# Altium integrated library Altera Cyclone II.IntLib: 234 symbols (part 7 of 38)
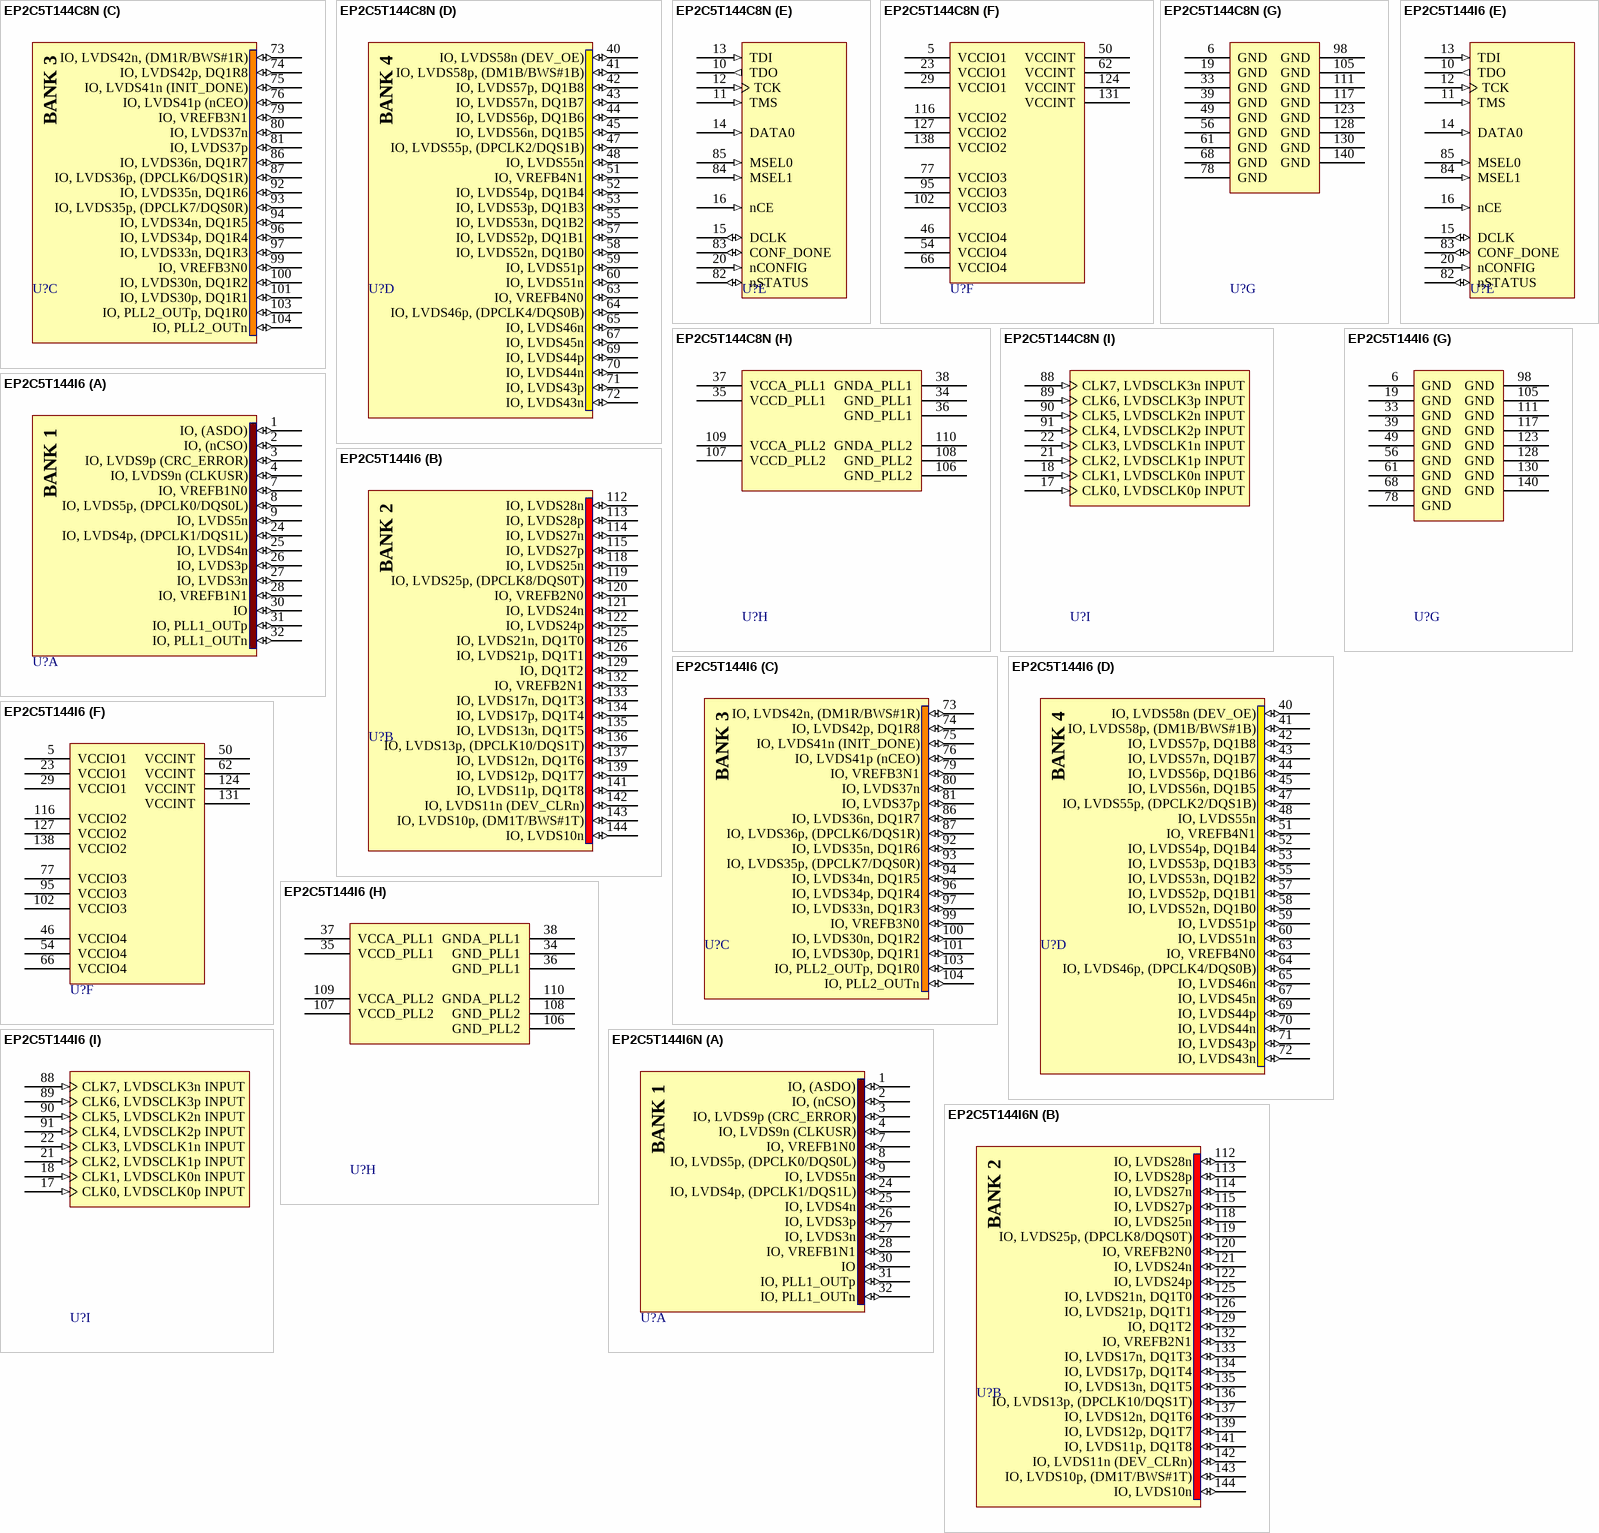
[diagram p502: symbols EP2C5T144C8N to EP2C5T144I6N]

## EP2C5T144C8N
designator U?
Cyclone II Family, 1.2V FPGA, 89 I/O Pins, 2 PLLs, 144-Pin TQFP, Speed Grade 8, Commercial Grade, Pb-Free; Published: 4-Mar-2005; LatestRevisionDate: 14-May-2007; LatestRevisionNote: DATA0 pin is now INPUT.; DatasheetVersion: ver3.3, Feb-2008; PackageVersion: ver15.4, Dec-2008; PackageReference: TQFP144; Publisher: Altium Limited; PackageDescription: 144-Pin Plastic Thin Quad Flat Pack (TQFP144) - Wire Bond; Supplier 1: Digi-Key; Supplier Part Number 1: 544-1665-ND; Supplier 2: Farnell; Supplier Part Number 2: 1662263; Supplier 3: Farnell; Supplier Part Number 3: 1453497; Code_JEDEC: MS-026-BFB; ComponentLink1Description: Manufacturer Link; ComponentLink1URL: http://www.altera.com/products/devices/cyclone2/cy2-index.jsp; ComponentLink2Description: Handbook; ComponentLink2URL: http://www.altera.com/literature/hb/cyc2/cyc2_cii5v1.pdf; ComponentLink3Description: Packaging Specification; ComponentLink3URL: http://www.altera.com/literature/ds/dspkg.pdf
footprint TQFP144_N (Thin QFP, 144-Leads, Body 20x20mm, Pitch 0.5mm, IPC Medium Density)
footprint TQFP144_L (Thin QFP, 144-Leads, Body 20x20mm, Pitch 0.5mm, IPC High Density)
footprint TQFP144_M (Thin QFP, 144-Leads, Body 20x20mm, Pitch 0.5mm, IPC Low Density)
3D model EP2C5-TQFP144 (144-Pin Plastic Thin Quad Flat Pack (TQFP144) - Wire Bond)
signal-integrity model EP2C5T_144 (Cyclone II)
part A pins: 1 IO, (ASDO) (io), 2 IO, (nCSO) (io), 3 IO, LVDS9p (CRC_ERROR) (io), 4 IO, LVDS9n (CLKUSR) (io), 7 IO, VREFB1N0 (io), 8 IO, LVDS5p, (DPCLK0/DQS0L) (io), 9 IO, LVDS5n (io), 24 IO, LVDS4p, (DPCLK1/DQS1L) (io), 25 IO, LVDS4n (io), 26 IO, LVDS3p (io), 27 IO, LVDS3n (io), 28 IO, VREFB1N1 (io), 30 IO (io), 31 IO, PLL1_OUTp (io), 32 IO, PLL1_OUTn (io)
part B pins: 112 IO, LVDS28n (io), 113 IO, LVDS28p (io), 114 IO, LVDS27n (io), 115 IO, LVDS27p (io), 118 IO, LVDS25n (io), 119 IO, LVDS25p, (DPCLK8/DQS0T) (io), 120 IO, VREFB2N0 (io), 121 IO, LVDS24n (io), 122 IO, LVDS24p (io), 125 IO, LVDS21n, DQ1T0 (io), 126 IO, LVDS21p, DQ1T1 (io), 129 IO, DQ1T2 (io), 132 IO, VREFB2N1 (io), 133 IO, LVDS17n, DQ1T3 (io), 134 IO, LVDS17p, DQ1T4 (io), 135 IO, LVDS13n, DQ1T5 (io), 136 IO, LVDS13p, (DPCLK10/DQS1T) (io), 137 IO, LVDS12n, DQ1T6 (io), 139 IO, LVDS12p, DQ1T7 (io), 141 IO, LVDS11p, DQ1T8 (io), 142 IO, LVDS11n (DEV_CLRn) (io), 143 IO, LVDS10p, (DM1T/BWS#1T) (io), 144 IO, LVDS10n (io)
part C pins: 73 IO, LVDS42n, (DM1R/BWS#1R) (io), 74 IO, LVDS42p, DQ1R8 (io), 75 IO, LVDS41n (INIT_DONE) (io), 76 IO, LVDS41p (nCEO) (io), 79 IO, VREFB3N1 (io), 80 IO, LVDS37n (io), 81 IO, LVDS37p (io), 86 IO, LVDS36n, DQ1R7 (io), 87 IO, LVDS36p, (DPCLK6/DQS1R) (io), 92 IO, LVDS35n, DQ1R6 (io), 93 IO, LVDS35p, (DPCLK7/DQS0R) (io), 94 IO, LVDS34n, DQ1R5 (io), 96 IO, LVDS34p, DQ1R4 (io), 97 IO, LVDS33n, DQ1R3 (io), 99 IO, VREFB3N0 (io), 100 IO, LVDS30n, DQ1R2 (io), 101 IO, LVDS30p, DQ1R1 (io), 103 IO, PLL2_OUTp, DQ1R0 (io), 104 IO, PLL2_OUTn (io)
part D pins: 40 IO, LVDS58n (DEV_OE) (io), 41 IO, LVDS58p, (DM1B/BWS#1B) (io), 42 IO, LVDS57p, DQ1B8 (io), 43 IO, LVDS57n, DQ1B7 (io), 44 IO, LVDS56p, DQ1B6 (io), 45 IO, LVDS56n, DQ1B5 (io), 47 IO, LVDS55p, (DPCLK2/DQS1B) (io), 48 IO, LVDS55n (io), 51 IO, VREFB4N1 (io), 52 IO, LVDS54p, DQ1B4 (io), 53 IO, LVDS53p, DQ1B3 (io), 55 IO, LVDS53n, DQ1B2 (io), 57 IO, LVDS52p, DQ1B1 (io), 58 IO, LVDS52n, DQ1B0 (io), 59 IO, LVDS51p (io), 60 IO, LVDS51n (io), 63 IO, VREFB4N0 (io), 64 IO, LVDS46p, (DPCLK4/DQS0B) (io), 65 IO, LVDS46n (io), 67 IO, LVDS45n (io), 69 IO, LVDS44p (io), 70 IO, LVDS44n (io), 71 IO, LVDS43p (io), 72 IO, LVDS43n (io)
part E pins: 10 TDO (out), 11 TMS (in), 12 TCK (in), 13 TDI (in), 14 DATA0 (in), 15 DCLK (io), 16 nCE (in), 20 nCONFIG (in), 82 nSTATUS (io), 83 CONF_DONE (io), 84 MSEL1 (in), 85 MSEL0 (in)
part F pins: 5 VCCIO1 (power), 23 VCCIO1 (power), 29 VCCIO1 (power), 46 VCCIO4 (power), 50 VCCINT (power), 54 VCCIO4 (power), 62 VCCINT (power), 66 VCCIO4 (power), 77 VCCIO3 (power), 95 VCCIO3 (power), 102 VCCIO3 (power), 116 VCCIO2 (power), 124 VCCINT (power), 127 VCCIO2 (power), 131 VCCINT (power), 138 VCCIO2 (power)
part G pins: 6 GND (power), 19 GND (power), 33 GND (power), 39 GND (power), 49 GND (power), 56 GND (power), 61 GND (power), 68 GND (power), 78 GND (power), 98 GND (power), 105 GND (power), 111 GND (power), 117 GND (power), 123 GND (power), 128 GND (power), 130 GND (power), 140 GND (power)
part H pins: 34 GND_PLL1 (power), 35 VCCD_PLL1 (power), 36 GND_PLL1 (power), 37 VCCA_PLL1 (power), 38 GNDA_PLL1 (power), 106 GND_PLL2 (power), 107 VCCD_PLL2 (power), 108 GND_PLL2 (power), 109 VCCA_PLL2 (power), 110 GNDA_PLL2 (power)
part I pins: 17 CLK0, LVDSCLK0p INPUT (in), 18 CLK1, LVDSCLK0n INPUT (in), 21 CLK2, LVDSCLK1p INPUT (in), 22 CLK3, LVDSCLK1n INPUT (in), 88 CLK7, LVDSCLK3n INPUT (in), 89 CLK6, LVDSCLK3p INPUT (in), 90 CLK5, LVDSCLK2n INPUT (in), 91 CLK4, LVDSCLK2p INPUT (in)
part A text: BANK 1
part B text: BANK 2
part C text: BANK 3
part D text: BANK 4

## EP2C5T144I6
designator U?
Cyclone II Family, 1.2V FPGA, 89 I/O Pins, 2 PLLs, 144-Pin TQFP, Speed Grade 6, Industrial Grade; Published: 18-Aug-2005; LatestRevisionDate: 14-May-2007; LatestRevisionNote: DATA0 pin is now INPUT.; DatasheetVersion: ver3.3, Feb-2008; PackageVersion: ver15.4, Dec-2008; PackageReference: TQFP144; Publisher: Altium Limited; PackageDescription: 144-Pin Plastic Thin Quad Flat Pack (TQFP144) - Wire Bond; Code_JEDEC: MS-026-BFB; ComponentLink1Description: Manufacturer Link; ComponentLink1URL: http://www.altera.com/products/devices/cyclone2/cy2-index.jsp; ComponentLink2Description: Handbook; ComponentLink2URL: http://www.altera.com/literature/hb/cyc2/cyc2_cii5v1.pdf; ComponentLink3Description: Packaging Specification; ComponentLink3URL: http://www.altera.com/literature/ds/dspkg.pdf
footprint TQFP144_N (Thin QFP, 144-Leads, Body 20x20mm, Pitch 0.5mm, IPC Medium Density)
footprint TQFP144_L (Thin QFP, 144-Leads, Body 20x20mm, Pitch 0.5mm, IPC High Density)
footprint TQFP144_M (Thin QFP, 144-Leads, Body 20x20mm, Pitch 0.5mm, IPC Low Density)
3D model EP2C5-TQFP144 (144-Pin Plastic Thin Quad Flat Pack (TQFP144) - Wire Bond)
signal-integrity model EP2C5T_144 (Cyclone II)
part A pins: 1 IO, (ASDO) (io), 2 IO, (nCSO) (io), 3 IO, LVDS9p (CRC_ERROR) (io), 4 IO, LVDS9n (CLKUSR) (io), 7 IO, VREFB1N0 (io), 8 IO, LVDS5p, (DPCLK0/DQS0L) (io), 9 IO, LVDS5n (io), 24 IO, LVDS4p, (DPCLK1/DQS1L) (io), 25 IO, LVDS4n (io), 26 IO, LVDS3p (io), 27 IO, LVDS3n (io), 28 IO, VREFB1N1 (io), 30 IO (io), 31 IO, PLL1_OUTp (io), 32 IO, PLL1_OUTn (io)
part B pins: 112 IO, LVDS28n (io), 113 IO, LVDS28p (io), 114 IO, LVDS27n (io), 115 IO, LVDS27p (io), 118 IO, LVDS25n (io), 119 IO, LVDS25p, (DPCLK8/DQS0T) (io), 120 IO, VREFB2N0 (io), 121 IO, LVDS24n (io), 122 IO, LVDS24p (io), 125 IO, LVDS21n, DQ1T0 (io), 126 IO, LVDS21p, DQ1T1 (io), 129 IO, DQ1T2 (io), 132 IO, VREFB2N1 (io), 133 IO, LVDS17n, DQ1T3 (io), 134 IO, LVDS17p, DQ1T4 (io), 135 IO, LVDS13n, DQ1T5 (io), 136 IO, LVDS13p, (DPCLK10/DQS1T) (io), 137 IO, LVDS12n, DQ1T6 (io), 139 IO, LVDS12p, DQ1T7 (io), 141 IO, LVDS11p, DQ1T8 (io), 142 IO, LVDS11n (DEV_CLRn) (io), 143 IO, LVDS10p, (DM1T/BWS#1T) (io), 144 IO, LVDS10n (io)
part C pins: 73 IO, LVDS42n, (DM1R/BWS#1R) (io), 74 IO, LVDS42p, DQ1R8 (io), 75 IO, LVDS41n (INIT_DONE) (io), 76 IO, LVDS41p (nCEO) (io), 79 IO, VREFB3N1 (io), 80 IO, LVDS37n (io), 81 IO, LVDS37p (io), 86 IO, LVDS36n, DQ1R7 (io), 87 IO, LVDS36p, (DPCLK6/DQS1R) (io), 92 IO, LVDS35n, DQ1R6 (io), 93 IO, LVDS35p, (DPCLK7/DQS0R) (io), 94 IO, LVDS34n, DQ1R5 (io), 96 IO, LVDS34p, DQ1R4 (io), 97 IO, LVDS33n, DQ1R3 (io), 99 IO, VREFB3N0 (io), 100 IO, LVDS30n, DQ1R2 (io), 101 IO, LVDS30p, DQ1R1 (io), 103 IO, PLL2_OUTp, DQ1R0 (io), 104 IO, PLL2_OUTn (io)
part D pins: 40 IO, LVDS58n (DEV_OE) (io), 41 IO, LVDS58p, (DM1B/BWS#1B) (io), 42 IO, LVDS57p, DQ1B8 (io), 43 IO, LVDS57n, DQ1B7 (io), 44 IO, LVDS56p, DQ1B6 (io), 45 IO, LVDS56n, DQ1B5 (io), 47 IO, LVDS55p, (DPCLK2/DQS1B) (io), 48 IO, LVDS55n (io), 51 IO, VREFB4N1 (io), 52 IO, LVDS54p, DQ1B4 (io), 53 IO, LVDS53p, DQ1B3 (io), 55 IO, LVDS53n, DQ1B2 (io), 57 IO, LVDS52p, DQ1B1 (io), 58 IO, LVDS52n, DQ1B0 (io), 59 IO, LVDS51p (io), 60 IO, LVDS51n (io), 63 IO, VREFB4N0 (io), 64 IO, LVDS46p, (DPCLK4/DQS0B) (io), 65 IO, LVDS46n (io), 67 IO, LVDS45n (io), 69 IO, LVDS44p (io), 70 IO, LVDS44n (io), 71 IO, LVDS43p (io), 72 IO, LVDS43n (io)
part E pins: 10 TDO (out), 11 TMS (in), 12 TCK (in), 13 TDI (in), 14 DATA0 (in), 15 DCLK (io), 16 nCE (in), 20 nCONFIG (in), 82 nSTATUS (io), 83 CONF_DONE (io), 84 MSEL1 (in), 85 MSEL0 (in)
part F pins: 5 VCCIO1 (power), 23 VCCIO1 (power), 29 VCCIO1 (power), 46 VCCIO4 (power), 50 VCCINT (power), 54 VCCIO4 (power), 62 VCCINT (power), 66 VCCIO4 (power), 77 VCCIO3 (power), 95 VCCIO3 (power), 102 VCCIO3 (power), 116 VCCIO2 (power), 124 VCCINT (power), 127 VCCIO2 (power), 131 VCCINT (power), 138 VCCIO2 (power)
part G pins: 6 GND (power), 19 GND (power), 33 GND (power), 39 GND (power), 49 GND (power), 56 GND (power), 61 GND (power), 68 GND (power), 78 GND (power), 98 GND (power), 105 GND (power), 111 GND (power), 117 GND (power), 123 GND (power), 128 GND (power), 130 GND (power), 140 GND (power)
part H pins: 34 GND_PLL1 (power), 35 VCCD_PLL1 (power), 36 GND_PLL1 (power), 37 VCCA_PLL1 (power), 38 GNDA_PLL1 (power), 106 GND_PLL2 (power), 107 VCCD_PLL2 (power), 108 GND_PLL2 (power), 109 VCCA_PLL2 (power), 110 GNDA_PLL2 (power)
part I pins: 17 CLK0, LVDSCLK0p INPUT (in), 18 CLK1, LVDSCLK0n INPUT (in), 21 CLK2, LVDSCLK1p INPUT (in), 22 CLK3, LVDSCLK1n INPUT (in), 88 CLK7, LVDSCLK3n INPUT (in), 89 CLK6, LVDSCLK3p INPUT (in), 90 CLK5, LVDSCLK2n INPUT (in), 91 CLK4, LVDSCLK2p INPUT (in)
part A text: BANK 1
part B text: BANK 2
part C text: BANK 3
part D text: BANK 4

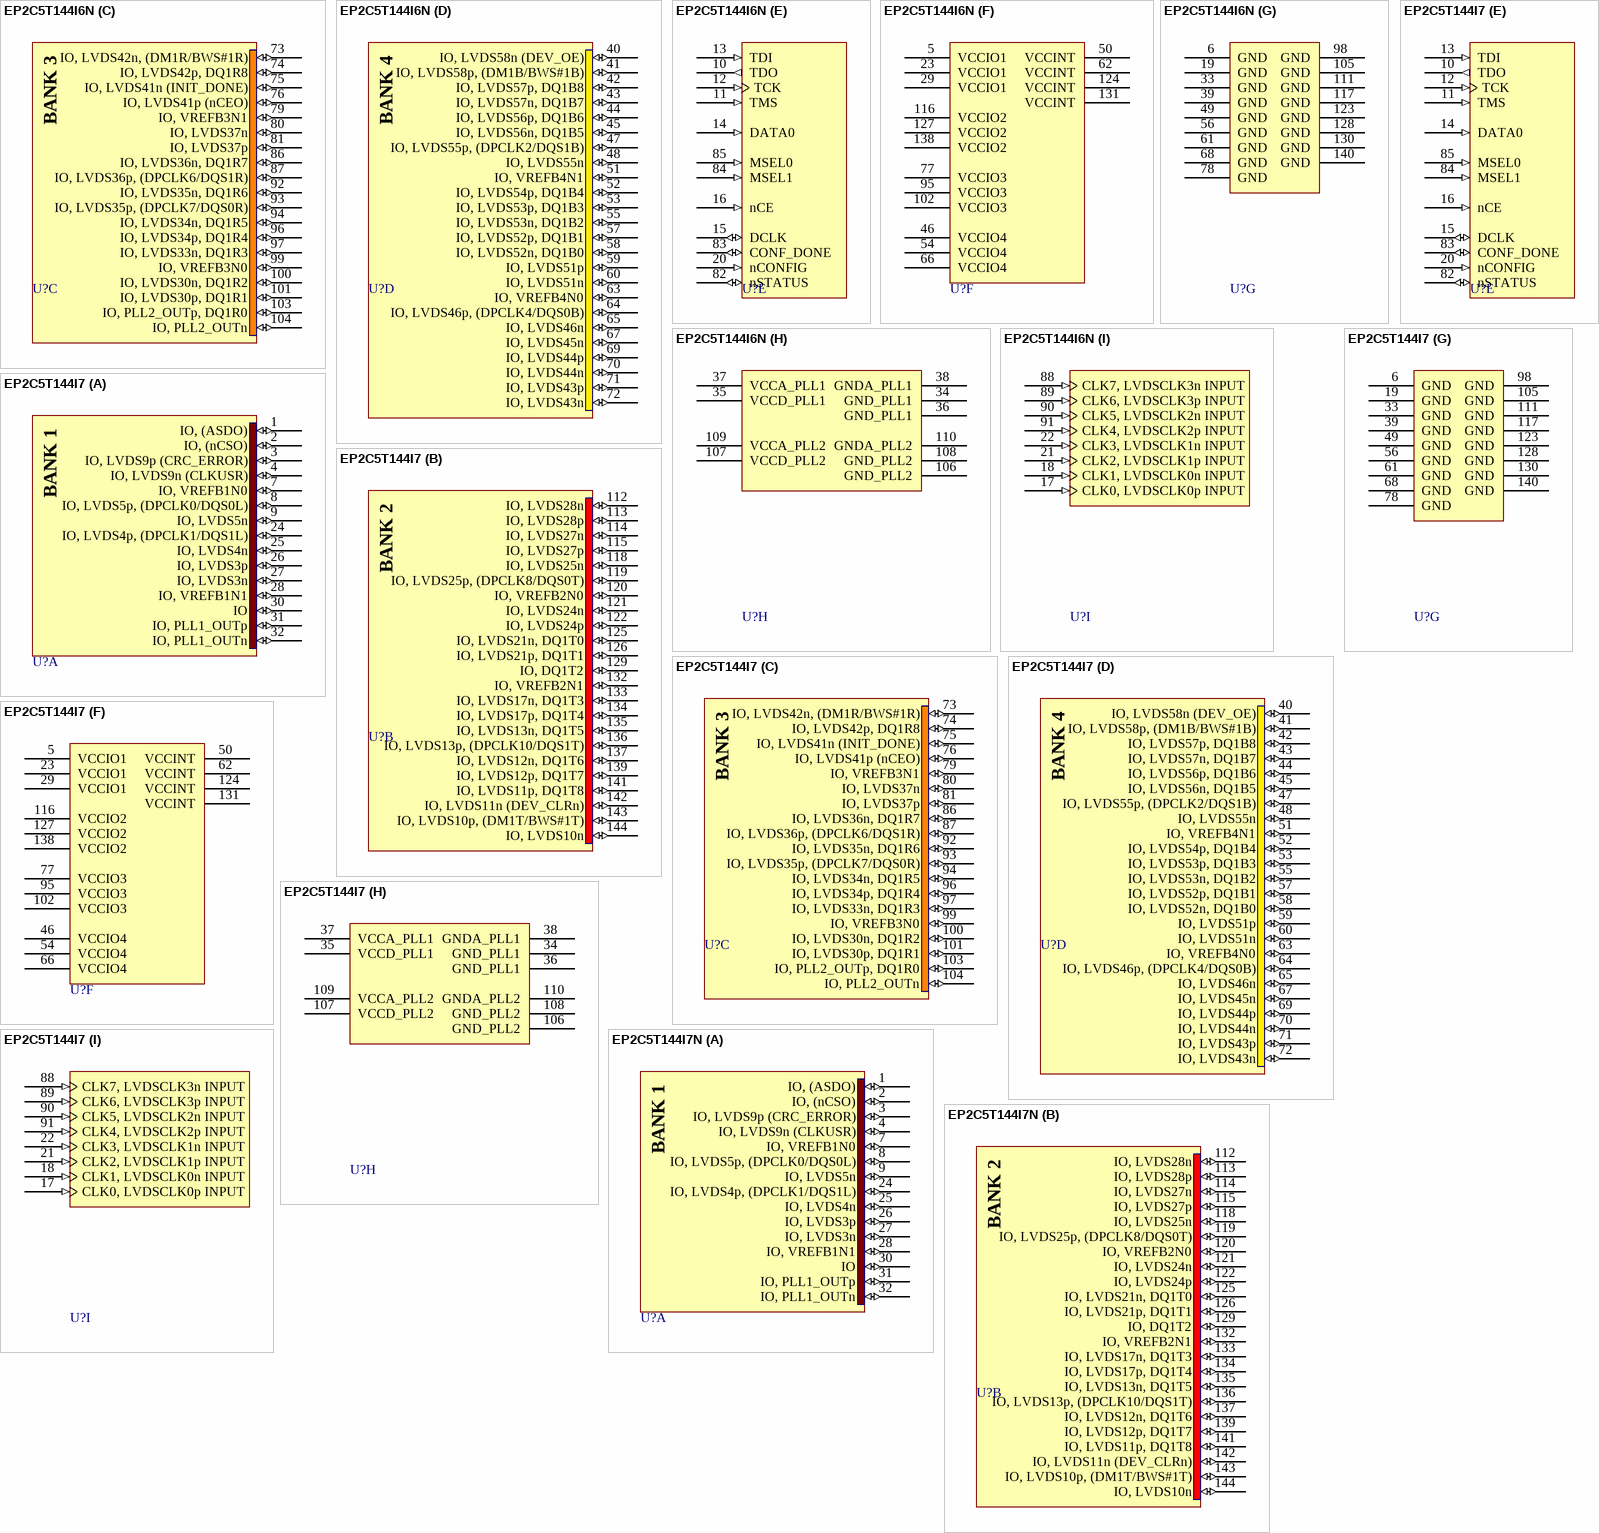
[diagram p31: symbols EP2C5T144I6N to EP2C5T144I7N]